# EAGLE library part USR_WIFI-T (library usr_wifi)
USR-WIFI232-T WiFi Module
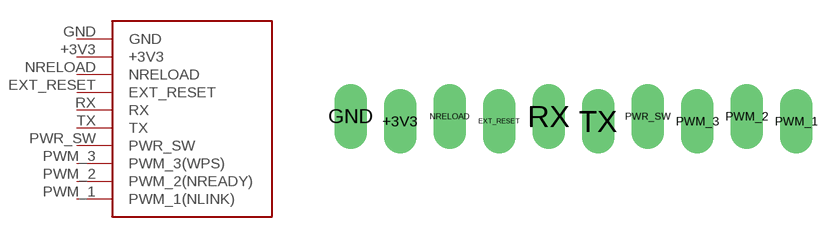
[diagram p1: symbol with the pads of WIFI_MODULE-T; footprint WIFI_MODULE-T]

Designator prefix -

## USR_WIFI-T  [WIFI_MODULE-T]
+3V3  +3V3  pwr
EXT_RESET  EXT_RESET
GND  GND  pwr
NRELOAD  NRELOAD
PWM_1  PWM_1(NLINK)
PWM_2  PWM_2(NREADY)
PWM_3  PWM_3(WPS)
PWR_SW  PWR_SW
RX  RX
TX  TX

## Footprint WIFI_MODULE-T (pad centres in mm)
drill 0.8 long: +3V3 -6,-0.1; EXT_RESET -2,-0.1; GND -8,0.1; NRELOAD -4,0.1; PWM_1 10,-0.1; PWM_2 8,0.1; PWM_3 6,-0.1; PWR_SW 4,0.1; RX 0,0.1; TX 2,-0.1